# Altium footprint library balun.PcbLib: 1 footprints
Each footprint in its own frame and in the unit in brackets; x right, y up, seen from the top. Pads: shape width x height; smd on the part's side, far side on the other; paste and mask are expansions set on the pad; w line width, h text height; cw(c..) or ccw(c..) is an arc to the next point about the centre after c.
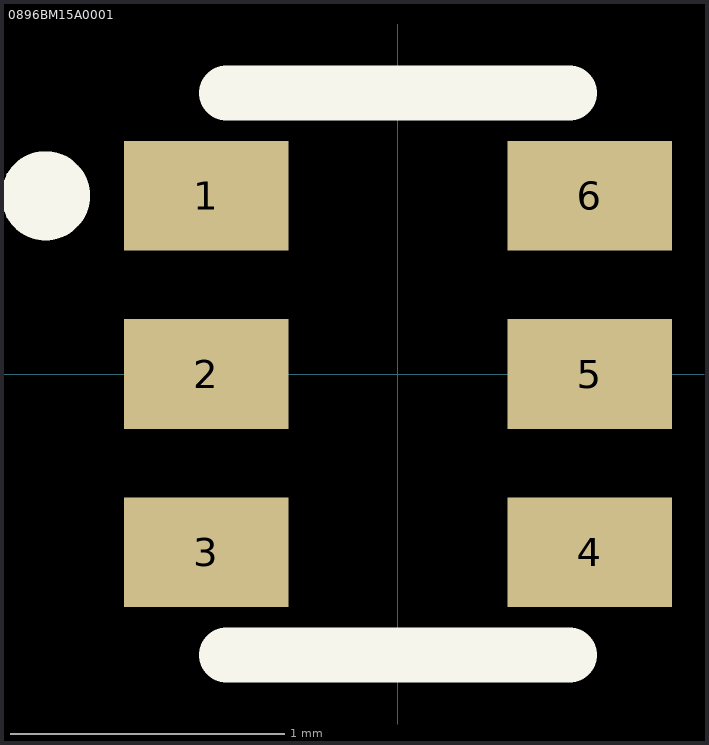
[diagram p0: the footprint, top view; thin cyan lines are the x and y axes]

## 0896BM15A0001 [mm] "896 MHz Balun/Matching Network for T.I. Chipset CC11XX"
height 0.7
pads (6):
  rect 0.6x0.4 smd: 1(-0.7,0.65) 2(-0.7,0) 3(-0.7,-0.65) 4(0.7,-0.65) 5(0.7,0) 6(0.7,0.65)
Top Overlay:
  circle w0.254: c-1.285,0.65 r0.035
  lines w0.2: -0.625,-1.025 0.625,-1.025 ; -0.625,1.025 0.625,1.025
3D body: height 0.7, standoff 0, extent -0.625,-1 0.625,1